# Altium footprint library PA93.PcbLib: 3 footprints
Each footprint in its own frame and in the unit in brackets; x right, y up, seen from the top. Pads: shape width x height; smd on the part's side, far side on the other; paste and mask are expansions set on the pad; w line width, h text height; cw(c..) or ccw(c..) is an arc to the next point about the centre after c.
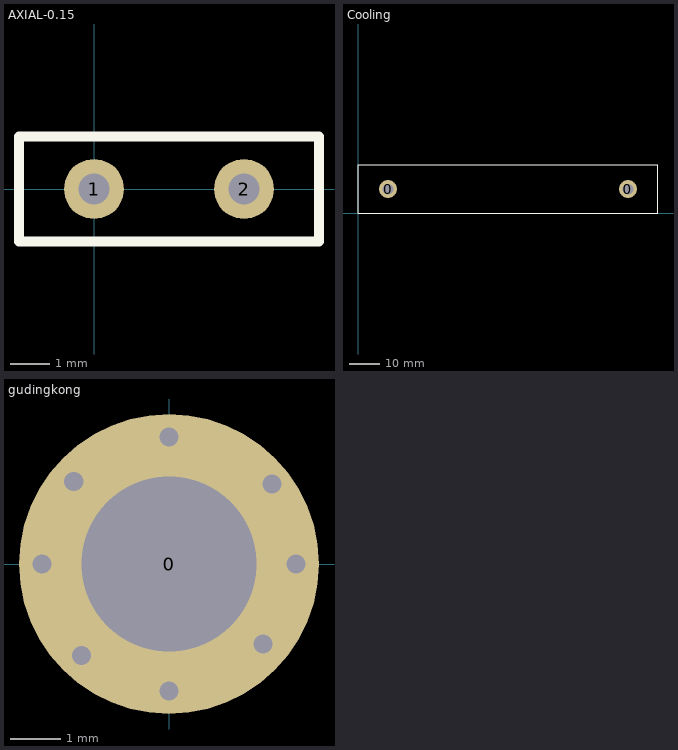
[diagram p0: the footprints below, top view; thin cyan lines are the x and y axes]

## AXIAL-0.15 [mil]
pads (2):
  round 60 hole 31.5: 1(0,0) 2(150,0)
Top Overlay:
  lines w10: -75,-52.5 -75,52.5 225,52.5 225,-52.5 -75,-52.5

## Cooling [mm]
pads (2):
  round 6 hole 3.5: 0(10,8) 0(90,8)
Top Overlay:
  lines w0.254: 0,0 0,16 100,16 100,0 0,0

## gudingkong [mm]
pads (1):
  round 6 hole 3.5: 0(0,0)
via 0,2.54 diameter 0.762 hole 0.381
via 0,-2.54 diameter 0.762 hole 0.381
via -2.54,0 diameter 0.762 hole 0.381
via 2.54,0 diameter 0.762 hole 0.381
via -1.905,1.651 diameter 0.762 hole 0.381
via 2.057,1.6 diameter 0.762 hole 0.381
via -1.753,-1.829 diameter 0.762 hole 0.381
via 1.88,-1.6 diameter 0.762 hole 0.381